# Altium footprint library Active.PcbLib: 29 footprints (part 1 of 2)
Each footprint in its own frame and in the unit in brackets; x right, y up, seen from the top. Pads: shape width x height; smd on the part's side, far side on the other; paste and mask are expansions set on the pad; w line width, h text height; cw(c..) or ccw(c..) is an arc to the next point about the centre after c.
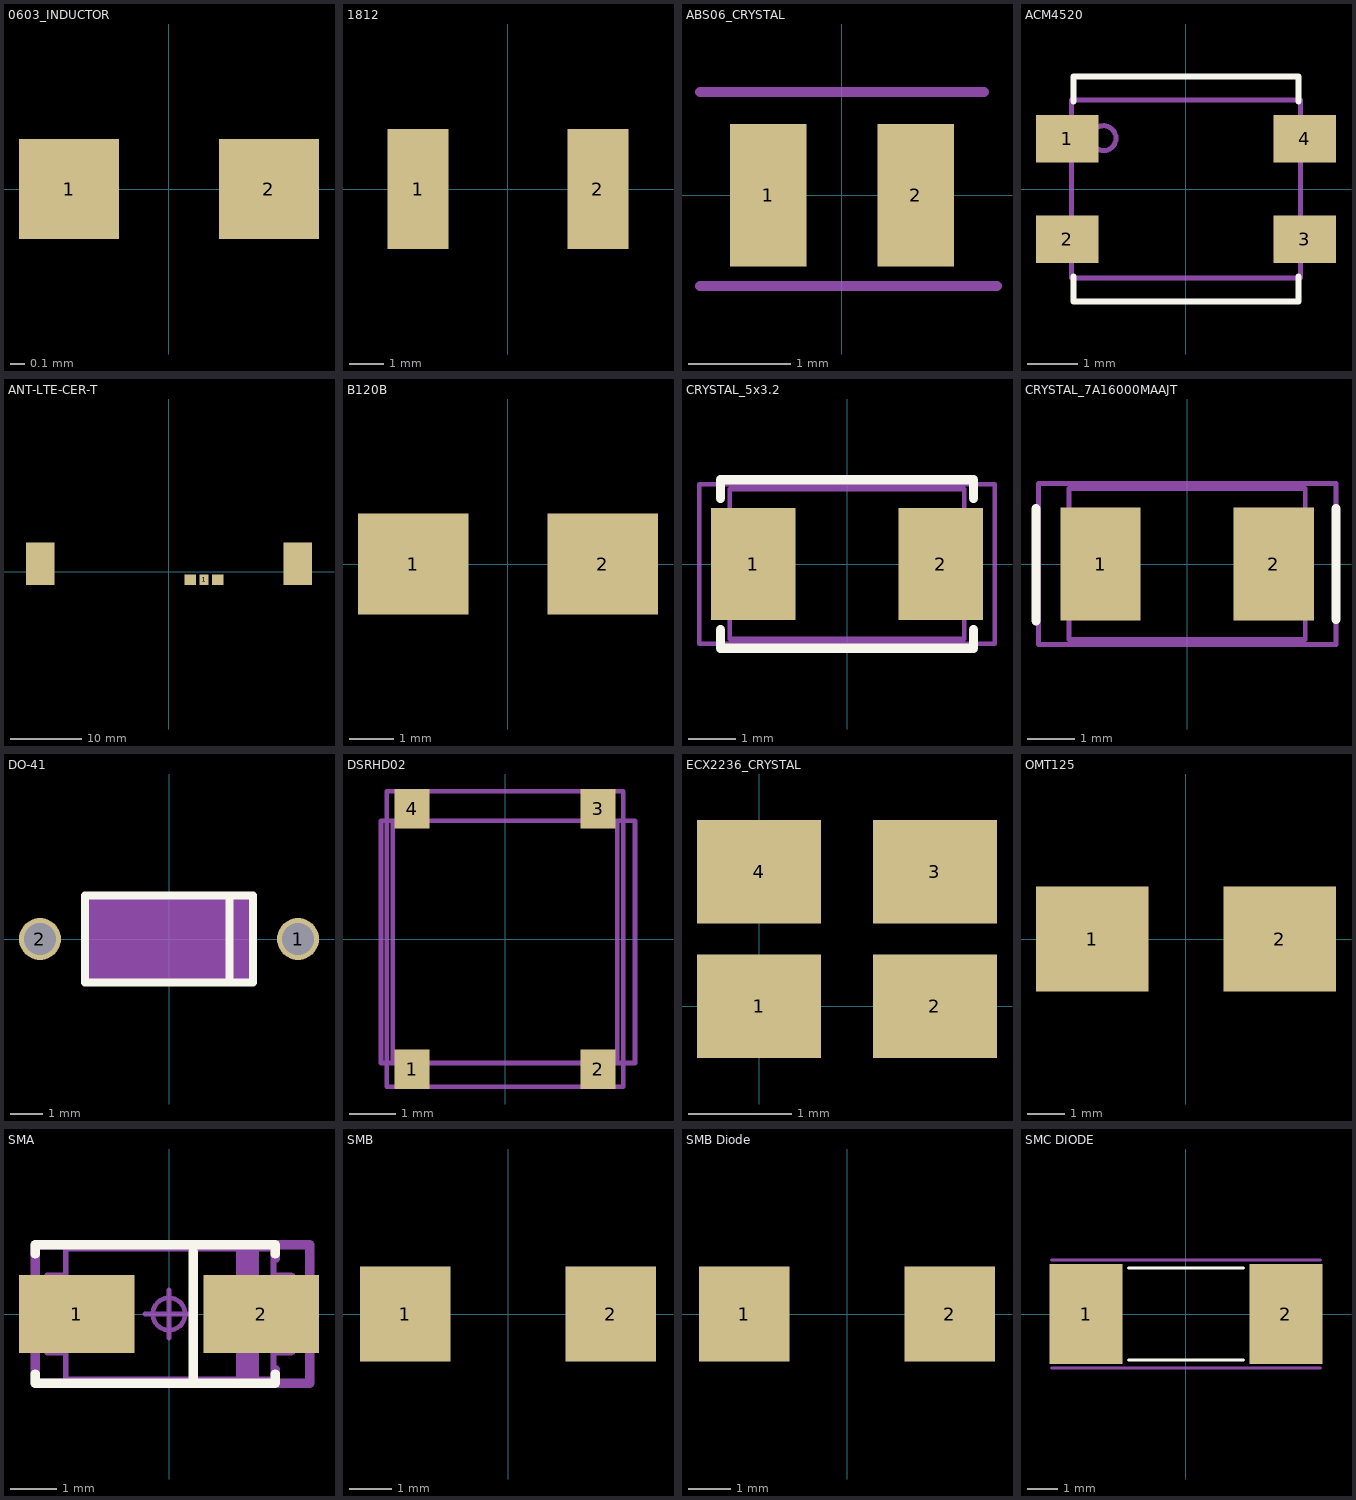
[diagram p0: the footprints below, top view; thin cyan lines are the x and y axes]

## 0603_INDUCTOR [mm]
pads (2):
  rect 0.7x0.7 smd mask+0.03: 1(-0.7,0) 2(0.7,0)
3D body: height 0.8, standoff 0, extent -0.8,-0.4 0.8,0.4

## 1812 [mm]
pads (2):
  rect 1.78x3.5 smd mask+0.03: 1(-2.615,0) 2(2.615,0)
3D body: height 0.6, standoff 0, extent -2.4,-1.75 2.4,1.75

## ABS06_CRYSTAL [mm]
pads (2):
  rect 0.75x1.4 smd mask+0.051: 1(-0.725,0) 2(0.725,0)
Mechanical 7:
  lines w0.1: -1.397,-0.889 1.524,-0.889 ; -1.397,1.016 1.397,1.016
  text ".Designator" at -1.778,-0.635 h2.2
3D body: height 0.6, standoff 0, extent -1,-0.6 1,0.6

## ACM4520 [mm]
pads (4):
  rect 1.25x0.95 smd mask+0.051: 1(-2.375,1) 2(-2.375,-1) 3(2.375,-1) 4(2.375,1)
Top Overlay:
  lines w0.127: -2.25,-1.75 -2.25,-2.25 2.25,-2.25 2.25,-1.75 ; -2.25,1.75 -2.25,2.25 2.25,2.25 2.25,1.75
Mechanical 7:
  circle w0.1: c-1.651,1.016 r0.25
  lines w0.1: -2.286,-1.397 -2.794,-1.397 -2.794,-0.635 -2.286,-0.635 ; -2.286,0.635 -2.794,0.635 -2.794,1.397 -2.286,1.397 ; 2.286,-1.397 2.794,-1.397 2.794,-0.635 2.286,-0.635 ; 2.286,0.635 2.794,0.635 2.794,1.397 2.286,1.397 ; -2.286,-1.778 -2.286,1.778 2.286,1.778 2.286,-1.778 -2.286,-1.778
  text ".Designator" at -1.27,-0.381 h1.5
3D body: height 2, standoff 0, extent -2.25,-2.25 2.25,2.25

## ANT-LTE-CER-T [mm]
pads (5):
  rect 1.2x1.5 smd mask+0.051: 1(4.9,-1.125)
  rect 4x6 smd mask+0.051: ""(-18,1.125) ""(18,1.125)
  rect 1.65x1.5 smd mask+0.051: ""(2.975,-1.125) ""(6.825,-1.125)
3D body: height 5, standoff 0, extent -18.55,-1.375 18.45,3.625

## B120B [mm]
pads (2):
  rect 2.5x2.3 smd mask+0.051: 1(-2.15,0) 2(2.15,0)
3D body: height 2.5, standoff 0, extent -2.25,-1.75 2.25,1.75

## CRYSTAL_5x3.2 [mm] "Crystal, 2 pins, 5 x 3.2 x 1.35 mm"
height 1.35
pads (2):
  rect 1.8x2.4 smd: 1(-2,0) 2(2,0)
Top Overlay:
  lines w0.2: -2.7,-1.4 -2.7,-1.8 2.7,-1.8 2.7,-1.4 ; -2.7,1.4 -2.7,1.8 2.7,1.8 2.7,1.4
Mechanical 2:
  lines w0.1: -2.5,-1.6 -2.5,1.6 2.5,1.6 2.5,-1.6 -2.5,-1.6
Mechanical 4:
  lines w0.1: -3.15,-1.702 -3.15,1.702 3.15,1.702 3.15,-1.702 -3.15,-1.702
Mechanical 7:
  lines w0.1: -2.5,-1.6 2.5,-1.6 2.5,1.6 -2.5,1.6 -2.5,-1.6
  text ".Designator" at -1.27,-0.508 h1.8
3D body: height 1.2, standoff 0, extent -2.5,-1.6 2.5,1.6

## CRYSTAL_7A16000MAAJT [mm]
pads (2):
  rect 1.7x2.4 smd: 1(-1.835,0) 2(1.835,0)
Top Overlay:
  lines w0.2: -3.2,-1.202 -3.2,1.168 ; 3.15,-1.168 3.15,1.168
Mechanical 2:
  lines w0.1: -2.5,-1.6 2.5,-1.6 2.5,1.6 -2.5,1.6 -2.5,-1.6
Mechanical 4:
  lines w0.1: -3.15,-1.702 3.15,-1.702 3.15,1.702 -3.15,1.702 -3.15,-1.702
Mechanical 7:
  text ".Designator" at -3.505,-0.254 h1.8
3D body: height 1.2, standoff 0, extent -2.5,-1.6 2.5,1.6

## DO-41 [mm] "Power Diode"
height 3
pads (2):
  round 1.3 hole 1: 1(4,0) 2(-4,0)
Top Overlay:
  lines w0.254: 1.875,-1.35 1.875,1.35 ; -2.6,-1.35 -2.6,1.35 2.6,1.35 2.6,-1.35 -2.6,-1.35
Mechanical 1:
  rectangle: -2.6,-1.35 2.6,1.35

## DSRHD02 [mm] "Bridge Rectifier"
pads (4):
  rect 0.75x0.85 smd: 1(-2,-2.8) 2(2,-2.8) 3(2,2.8) 4(-2,2.8)
Mechanical 2:
  lines w0.1: -2.413,-2.667 2.413,-2.667 2.413,2.54 -2.413,2.54 -2.413,-2.667
Mechanical 4:
  lines w0.1: -2.54,-3.175 2.54,-3.175 2.54,3.175 -2.54,3.175 -2.54,-3.175
Mechanical 7:
  lines w0.1: -1.397,-2.667 -2.667,-2.667 -2.667,2.54 -1.397,2.54 ; 1.397,-2.667 2.794,-2.667 2.794,2.54 1.397,2.54
  text ".Designator" at 0.635,-1.651 h2.2
3D body: height 1.25, standoff 0, extent -2.5,-2.8 2.5,2.7

## ECX2236_CRYSTAL [mm]
pads (4):
  rect 1.2x1 smd mask+0.051: 1(0,0) 2(1.7,0) 3(1.7,1.3) 4(0,1.3)

## OMT125 [mm]
pads (2):
  rect 3x2.8 smd mask+0.03: 1(-2.5,0) 2(2.5,0)
3D body: height 2.6, standoff 0, extent -3.7,-1.55 3.7,1.55

## SMA [mm] "Surface Mount Plastic Rectifier"
height 2.3
pads (2):
  rect 2.5x1.7 smd: 1(-2,0) 2(2,0)
Top Overlay:
  lines w0.2: -2.9,-1.3 -2.9,-1.5 2.3,-1.5 2.3,-1.3 ; -2.9,1.3 -2.9,1.5 2.3,1.5 2.3,1.3 ; 0.525,-1.425 0.525,1.35
Mechanical 2:
  lines w0.05: -2.2,-0.85 -2.6,-0.85 -2.6,0.85 -2.2,0.85 ; 1.5,-1.4 1.5,1.4 ; 1.7,-1.4 1.7,1.4 ; 2.3,-0.85 2.7,-0.85 2.7,0.85 2.3,0.85 ; -2.2,-1.4 2.3,-1.4 2.3,1.4 -2.2,1.4 -2.2,-1.4
Mechanical 4:
  circle w0.1: c0,0 r0.35
  lines w0.05: -2.95,-1.5 -2.95,1.5 3,1.5 3,-1.5 -2.95,-1.5
  lines w0.1: -0.525,0 0.525,0 ; 0,-0.525 0,0.525
Mechanical 7:
  rectangle: 1.45,-1.4 1.95,1.4
  lines w0.1: -2.25,-0.85 -2.65,-0.85 -2.65,0.85 -2.25,0.85 ; 2.25,-0.85 2.65,-0.85 2.65,0.85 2.25,0.85 ; -2.25,-1.4 2.25,-1.4 2.25,1.4 -2.25,1.4 -2.25,-1.4
  text ".Designator" at -1.925,-0.65 h2.2
Mechanical 13:
  lines w0.2: 2.3,-1.5 2.3,-1.2 ; 2.3,1.2 2.3,1.5 ; -2.9,-1.5 -2.9,1.5 3.05,1.5 3.05,-1.5 1.25,-1.5 -2.9,-1.5
3D body "SMA[D0-214AC].STEP": height 2.36, standoff 0, extent -2.6,-1.45 2.6,1.45

## SMB [mm]
pads (2):
  rect 2.16x2.26 smd mask+0.03: 1(-2.45,0) 2(2.45,0)
3D body: height 2.6, standoff 0, extent -2.35,-1.95 2.35,1.95

## SMB Diode [mm]
pads (2):
  rect 2.16x2.26 smd mask+0.03: 1(-2.45,0) 2(2.45,0)
3D body: height 2.44, standoff 0, extent -2.25,-1.1 2.25,1.1

## SMC DIODE [mm]
pads (2):
  rect 2.4x3.3 smd mask+0.03: 1(-3.3,0) 2(3.3,0)
Top Overlay:
  lines w0.1: -1.905,-1.524 1.905,-1.524 ; -1.905,1.524 1.905,1.524
Mechanical 7:
  lines w0.1: -4.445,-1.778 4.445,-1.778 ; -4.445,1.778 4.445,1.778
  text ".Designator" at -1.651,-0.381 h1.5
3D body: height 2.6, standoff 0, extent -3.5,-2.875 3.5,2.875